# Altium footprint library NPN BJT.PcbLib: 2 footprints
Each footprint in its own frame and in the unit in brackets; x right, y up, seen from the top. Pads: shape width x height; smd on the part's side, far side on the other; paste and mask are expansions set on the pad; w line width, h text height; cw(c..) or ccw(c..) is an arc to the next point about the centre after c.
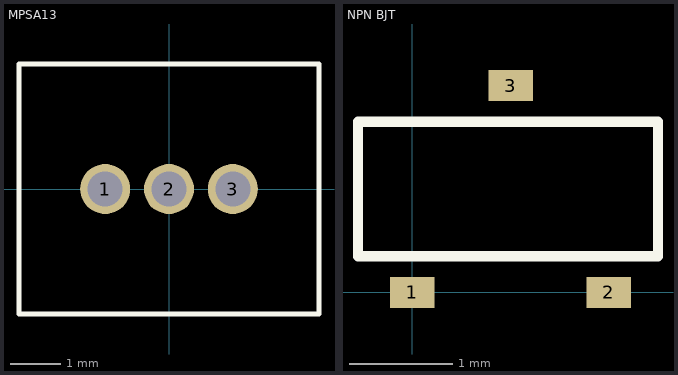
[diagram p0: the footprints below, top view; thin cyan lines are the x and y axes]

## MPSA13 [mm] "TRANS NPN 45V 0.2A TO-92"
pads (3):
  round 1 hole 0.7: 1(-1.275,0) 2(0,0) 3(1.275,0)
Top Overlay:
  lines w0.1: -3,-2.5 -3,2.5 3,2.5 3,-2.5 -3,-2.5

## NPN BJT [mm] "TRANS NPN DARL 30V 1.2A SOT-23"
pads (3):
  rect 0.43x0.3 smd: 1(0,0) 2(1.9,0) 3(0.95,2)
Top Overlay:
  lines w0.1: -0.525,0.35 2.375,0.35 2.375,1.65 -0.525,1.65 -0.525,0.35
3D body: height 1, standoff 0.05, extent -0.5,0.375 2.35,1.65